# Altium integrated library Crystal-25MHz-3225-SMD.IntLib: 1 symbol
Pins are listed as number, name and electrical type; pins without a type are passive.

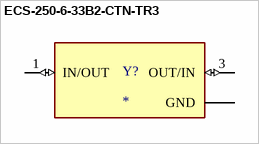
[diagram p0: symbol ECS-250-6-33B2-CTN-TR3]

## ECS-250-6-33B2-CTN-TR3
designator Y?
Crystals 25.0000MHZ 6PF SMD ECX-33B2 +/-2 ppm Aging 3225 4-SMD RoHS; MF: ECS; MP: ECS-250-6-33B2-CTN-TR3; SnapEDA_Link: https://www.snapeda.com/parts/ECS-250-6-33B2-CTN-TR3/ECS/view-part/?ref=snap; Package: ECS-33B2-33B2-4 ECS; Value: *; Check_prices: https://www.snapeda.com/parts/ECS-250-6-33B2-CTN-TR3/ECS/view-part/?ref=eda
footprint XTAL_ECS-250-6-33B2-CTN-TR3
pins: 1 IN/OUT (io), 2 GND (power), 3 OUT/IN (io), 4 GND (power)